# Altium footprint library CME6005.PcbLib: 1 footprints
Each footprint in its own frame and in the unit in brackets; x right, y up, seen from the top. Pads: shape width x height; smd on the part's side, far side on the other; paste and mask are expansions set on the pad; w line width, h text height; cw(c..) or ccw(c..) is an arc to the next point about the centre after c.
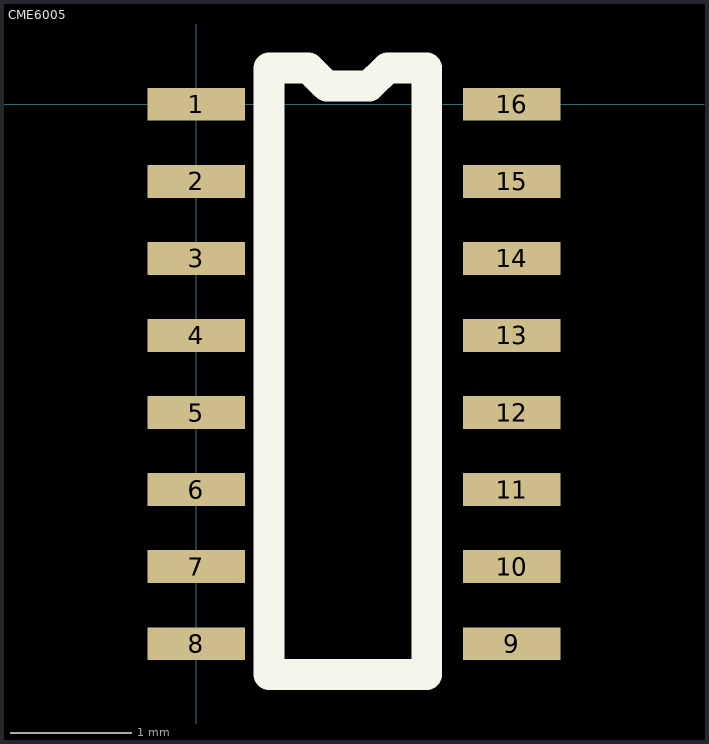
[diagram p0: the footprint, top view; thin cyan lines are the x and y axes]

## CME6005 [mm]
pads (16):
  rect 0.8x0.27 smd: 1(0,0) 2(0,-0.635) 3(0,-1.27) 4(0,-1.905) 5(0,-2.54) 6(0,-3.175) 7(0,-3.81) 8(0,-4.445) 9(2.6,-4.445) 10(2.6,-3.81) 11(2.6,-3.175) 12(2.6,-2.54) 13(2.6,-1.905) 14(2.6,-1.27) 15(2.6,-0.635) 16(2.6,0)
Top Overlay:
  lines w0.254: 0.6,-4.7 1.9,-4.7 1.9,0.3 1.575,0.3 1.425,0.15 1.075,0.15 0.925,0.3 0.6,0.3 0.6,-4.7